# Altium schematic symbol library SN74LVC3G34YZPR.SchLib: 2 symbols
Pins are listed as number, name and electrical type; pins without a type are passive.

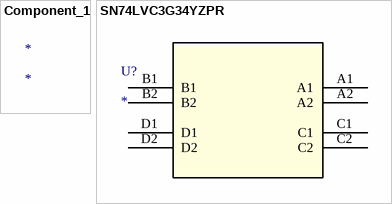
[diagram p0: symbols Component_1 to SN74LVC3G34YZPR]

## Component_1
designator *

## SN74LVC3G34YZPR
designator U?
No Description Available; Mfr_Name: Texas Instruments; RefDes: RefDes; Type: Type
footprint YZP8
pins: A1, A2, B1, B2, C1, C2, D1, D2